# EAGLE library part KSS-EXO-3 (library jason-test)
CMOS programmable frequency divider Frequencies available (MHz): 12.00 12.288 12.80 14.31818 14.7456 16.00 17.734476 18.432 19.6608 20.00
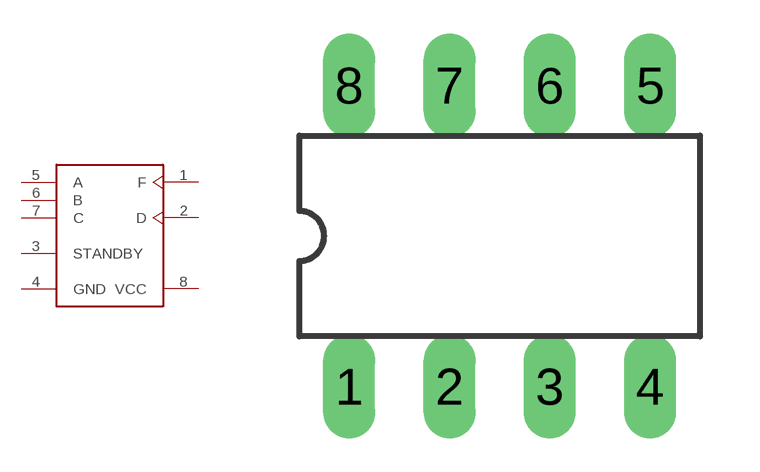
[diagram p2: symbol with the pads of DIL8; footprint DIL8]

Designator prefix -

## KSS-EXO-3  [DIL8]
1  F  out
2  D  out
3  STANDBY  in
4  GND  pwr
5  A  in
6  B  in
7  C  in
8  VCC  pwr

## Footprint DIL8 (pad centres in mm)
Dual In Line package type P
drill 0.813 long: 1 -3.81,-3.81; 2 -1.27,-3.81; 3 1.27,-3.81; 4 3.81,-3.81; 5 3.81,3.81; 6 1.27,3.81; 7 -1.27,3.81; 8 -3.81,3.81